# Altium schematic symbol library KC_amp.SchLib: 19 symbols
Pins are listed as number, name and electrical type; pins without a type are passive.

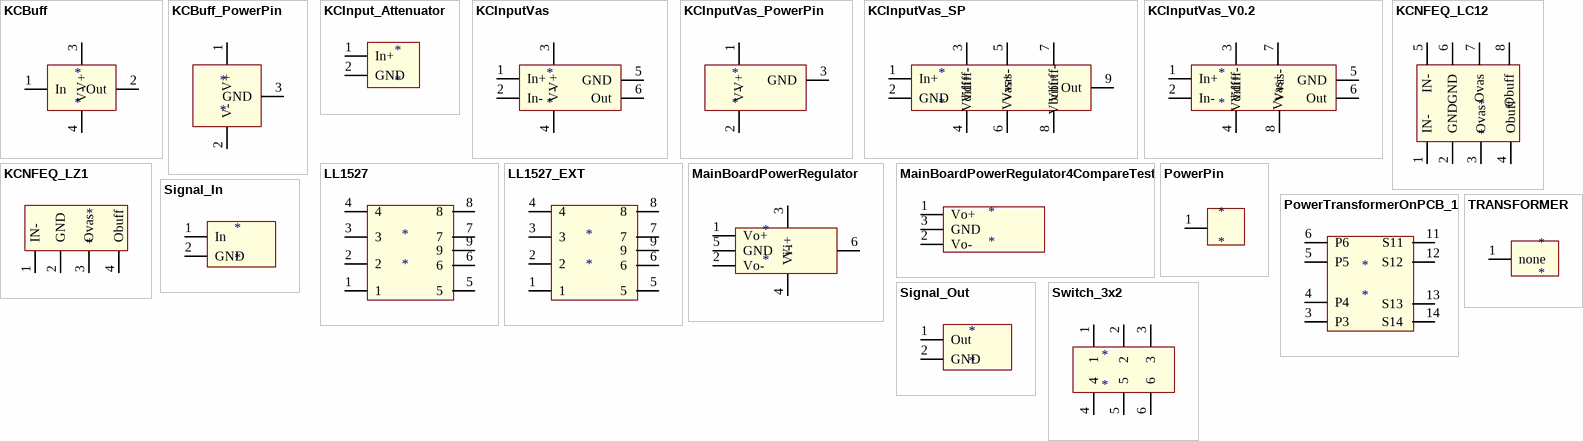
[diagram p0: symbols KCBuff to TRANSFORMER]

## KCBuff
designator *
King Cello Buffer Stage
footprint KCBuff
footprint KCBuff_M4
pins: 1 In, 2 Out, 3 V+, 4 V-

## KCBuff_PowerPin
designator *
King Cello Buffer Stage
footprint KCBuff_PowerPin_M4
pins: 1 V+, 2 V-, 3 GND

## KCInput_Attenuator
designator *
King Cello Input Attenuator
footprint KCIn_Attenuator
pins: 1 In+, 2 GND

## KCInputVas
designator *
King Cello Input Stage and VAS
footprint KCIn_VAS
footprint KCIn_VAS_M4
pins: 1 In+, 2 In-, 3 V+, 4 V-, 5 GND, 6 Out

## KCInputVas_PowerPin
designator *
King Cello Input Stage and VAS
footprint KCIn_VAS_PowerPin_M4
pins: 1 V+, 2 V-, 3 GND

## KCInputVas_SP
designator *
King Cello Input Stage and VAS for Seperated Power
footprint KCIn_VAS_SP_M4
pins: 1 In+, 2 GND, 3 Vdiff+, 4 Vdiff-, 5 Vvas+, 6 Vvas-, 7 Vbuff+, 8 Vbuff-, 9 Out

## KCInputVas_V0.2
designator *
King Cello Input Stage and VAS
footprint KCIn_VAS_M4_V0.2
pins: 1 In+, 2 In-, 3 Vdiff+, 4 Vdiff-, 5 GND, 6 Out, 7 Vvas+, 8 Vvas-

## KCNFEQ_LC12
designator *
King Cello Negative Feedback and EQ Board
footprint LC12-3.81 (Double Pole Switch 6 Pin)
pins: 1 IN-, 2 GND, 3 Ovas, 4 Obuff, 5 IN-, 6 GND, 7 Ovas, 8 Obuff

## KCNFEQ_LZ1
designator *
King Cello Negative Feedback and EQ Board
footprint LZ12-3.81 (Double Pole Switch 6 Pin)
pins: 1 IN-, 2 GND, 3 Ovas, 4 Obuff

## LL1527
designator *
Lundahl LL1527
footprint LL1527 (Lundahl LL1527)
pins: 1, 2, 3, 4, 5, 6, 7, 8, 9

## LL1527_EXT
designator *
Lundahl LL1527 for pin extend
footprint LL1527EXT (Lundahl LL1527 pin extend)
pins: 1, 2, 3, 4, 5, 6, 7, 8, 9

## MainBoardPowerRegulator
designator *
King Cello Main Board Power Regulator
footprint KC_MBPowerReg
pins: 1 Vo+, 2 Vo-, 3 Vi+, 4 Vi-, 5 GND, 6

## MainBoardPowerRegulator4CompareTest
designator *
King Cello Compare Test Power
footprint KC_MBPowerReg4Compare
footprint KC_MBPowerReg4Compare-1.5mm (1.5mm hole size)
footprint KC_MBPowerReg4Compare-1.5mm-W (1.5mm hole size)
pins: 1 Vo+, 2 Vo-, 3 GND

## PowerPin
designator *
Power Pin
footprint SinglePin (Single Pin For Power Wire or GND)
pins: 1

## PowerTransformerOnPCB_1
designator *
Talema On Board Transformer 25W
footprint TalemaTransformer25W (Talema 25w Transformer on PCB)
pins: 3 P3, 4 P4, 5 P5, 6 P6, 11 S11, 12 S12, 13 S13, 14 S14

## Signal_In
designator *
Signal In
footprint Signal_Terminal
pins: 1 In, 2 GND

## Signal_Out
designator *
Signal Out
footprint Signal_Terminal
pins: 1 Out, 2 GND

## Switch_3x2
designator *
Switch 3 pin 2 level
footprint Swich_3x2 (Double Pole Switch 6 Pin)
pins: 1, 2, 3, 4, 5, 6

## TRANSFORMER
designator *
Transformer
footprint TRANS_BLOCK_30W_24v (Transformer 30W 24v 70mm)
pins: 1 none